# Altium footprint library PMIC.PcbLib: 6 footprints
Each footprint in its own frame and in the unit in brackets; x right, y up, seen from the top. Pads: shape width x height; smd on the part's side, far side on the other; paste and mask are expansions set on the pad; w line width, h text height; cw(c..) or ccw(c..) is an arc to the next point about the centre after c.
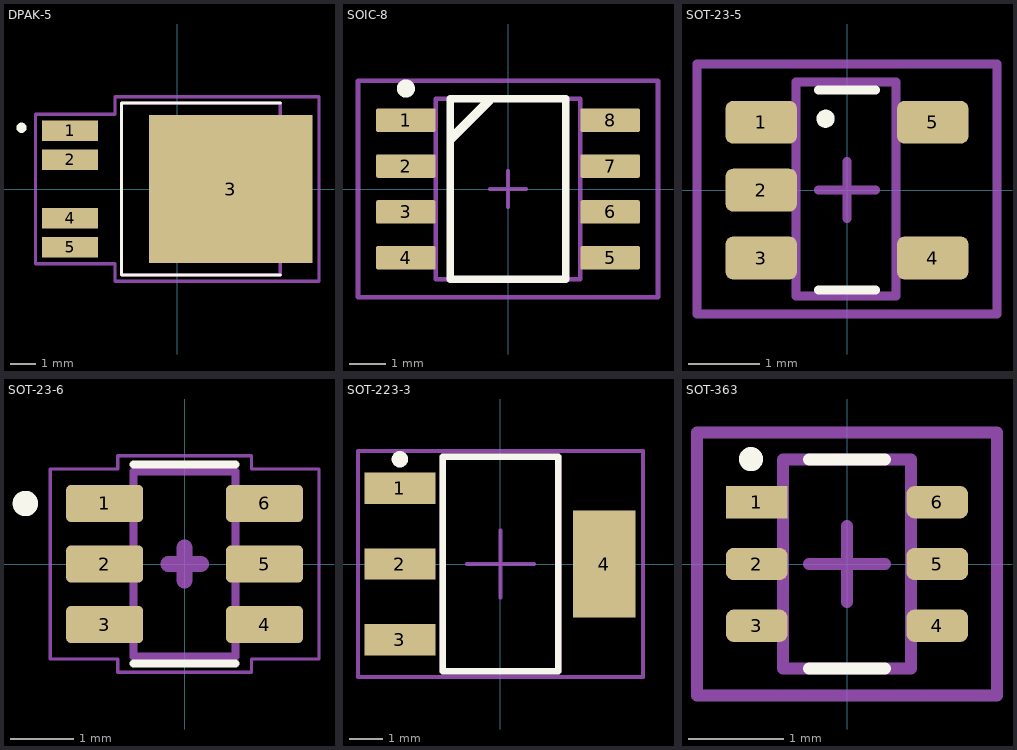
[diagram p0: the footprints below, top view; thin cyan lines are the x and y axes]

## DPAK-5 [mm]
pads (5):
  rect 2.2x0.8 smd: 1(-4.2,2.28) 2(-4.2,1.14) 4(-4.2,-1.14) 5(-4.2,-2.28)
  rect 6.4x5.8 smd paste-4: 3(2.1,0)
Top Overlay:
  circle w0.2: c-6.1,2.4 r0.1
  lines w0.127: 4.03,-3.365 -2.19,-3.365 -2.19,3.365 4.03,3.365
Top Paste:
  region: 2.87,-0.675 1.33,-0.675 1.33,0.675 2.87,0.675
  region: 2.87,-2.615 1.33,-2.615 1.33,-1.265 2.87,-1.265
  region: 2.87,1.265 1.33,1.265 1.33,2.615 2.87,2.615
  region: 5,-0.675 3.46,-0.675 3.46,0.675 5,0.675
  region: 5,-2.615 3.46,-2.615 3.46,-1.265 5,-1.265
  region: 5,1.265 3.46,1.265 3.46,2.615 5,2.615
  region: 0.74,-0.675 -0.8,-0.675 -0.8,0.675 0.74,0.675
  region: 0.74,-2.615 -0.8,-2.615 -0.8,-1.265 0.74,-1.265
  region: 0.74,1.265 -0.8,1.265 -0.8,2.615 0.74,2.615
Top Component Center:
  lines w0.127: -0.762,0 0,0 ; 0,-0.762 0,0 ; 0,0.762 0,0 ; 0.762,0 0,0
Top Component Outline:
  lines w0.127: -2.19,-3.365 4.03,-3.365 4.03,3.365 -2.19,3.365 -2.19,-3.365
Top Courtyard:
  lines w0.127: -5.55,-2.93 -2.44,-2.93 -2.44,-3.615 5.55,-3.615 5.55,3.615 -2.44,3.615 -2.44,2.93 -5.55,2.93 -5.55,-2.93
3D body "step_temp.STEP": height 2.39, standoff 0, extent -4.959,-3.27 4.959,3.27

## SOIC-8 [mm]
pads (8):
  rrect15% 1.65x0.65 smd: 1(-2.825,1.905) 2(-2.825,0.635) 3(-2.825,-0.635) 4(-2.825,-1.905) 5(2.825,-1.905) 6(2.825,-0.635) 7(2.825,0.635) 8(2.825,1.905)
Top Overlay:
  circle w0.25: c-2.825,2.78 r0.125
  lines w0.2: -1.6,-2.5 1.6,-2.5 1.6,2.5 -1.6,2.5 -1.6,-2.5
  lines w0.254: -1.57,1.397 -0.508,2.464
Top Component Center:
  lines w0.1: -0.5,0 0.5,0 ; 0,-0.5 0,0.5
Top Component Outline:
  lines w0.127: -2,-2.5 -2,2.5 2,2.5 2,-2.5 -2,-2.5
Top Courtyard:
  lines w0.127: -4.15,-3 4.15,-3 4.15,3 -4.15,3 -4.15,-3
3D body "SOIC-8akaD0008AakaM08A.stp": height 1.63, standoff 0, extent -3,-2.45 3,2.45

## SOT-23-5 [mm] "generic sot-23-5 footprint"
pads (5):
  rrect35% 1x0.6 smd: 1(-1.2,0.95) 2(-1.2,0) 3(-1.2,-0.95) 4(1.2,-0.95) 5(1.2,0.95)
Top Overlay:
  lines w0.127: -0.4,-1.4 0.4,-1.4 ; -0.4,1.4 0.4,1.4 ; -0.236,1 cw(c-0.3,1) -0.237,1.004
Top Component Center:
  lines w0.127: -0.4,0 0,0 ; 0,-0.4 0,0 ; 0,0.4 0,0 ; 0.4,0 0,0
Top Component Outline:
  lines w0.127: -0.716,-1.484 -0.716,1.516 0.684,1.516 0.684,-1.484 -0.716,-1.484
Top Courtyard:
  lines w0.127: -2.1,-1.734 2.1,-1.734 2.1,1.766 -2.1,1.766 -2.1,-1.734
3D body "TSX921IYLT.step": height 1.45, standoff 0, extent -1.4,-1.45 1.4,1.45

## SOT-23-6 [mm] "generic sot-23-6 footprint"
pads (6):
  rrect25% 1.21x0.58 smd: 1(-1.255,0.95) 2(-1.255,0) 3(-1.255,-0.95) 4(1.255,-0.95) 5(1.255,0) 6(1.255,0.95)
Top Overlay:
  circle w0.2: c-2.5,0.95 r0.1
  lines w0.127: -0.8,-1.56 0.8,-1.56 ; -0.8,1.56 0.8,1.56
Top Component Center:
  lines w0.254: -0.254,0 0.254,0 ; 0,-0.254 0,0.254
Top Component Outline:
  lines w0.127: -0.8,-1.45 0.8,-1.45 0.8,1.45 -0.8,1.45 -0.8,-1.45
Top Courtyard:
  lines w0.05: -2.11,-1.49 -1.05,-1.49 -1.05,-1.7 1.05,-1.7 1.05,-1.49 2.11,-1.49 2.11,1.49 1.05,1.49 1.05,1.7 -1.05,1.7 -1.05,1.49 -2.11,1.49 -2.11,-1.49
3D body "SOT-23-6_CHY_MCH.step": height 1.45, standoff 0, extent -1.397,-1.448 1.397,1.448

## SOT-223-3 [mm]
pads (4):
  rect 2.159x0.95 smd: 1(-3.048,2.3) 2(-3.048,0) 3(-3.048,-2.3)
  rect 1.9x3.25 smd: 4(3.15,0)
Top Overlay:
  circle w0.25: c-3.048,3.175 r0.125
  lines w0.2: -1.75,-3.25 -1.75,3.25 1.75,3.25 1.75,-3.25 -1.75,-3.25
Top Component Center:
  lines w0.127: -1.016,0 0,0 ; 0,-1.016 0,0 ; 0,1.016 0,0 ; 1.016,0 0,0
Top Component Outline:
  lines w0.2: -1.75,-3.25 -1.75,3.25 1.75,3.25 1.75,-3.25 -1.75,-3.25
Top Courtyard:
  lines w0.127: -4.318,-3.429 4.318,-3.429 4.318,3.429 -4.318,3.429 -4.318,-3.429
3D body "MCP1826S-3302E_DB.stp": height 1.8, standoff 0, extent -3.5,-3.25 3.5,3.25

## SOT-363 [mm] "6 pin compact footprint"
pads (6):
  rect 0.65x0.34 smd mask+0.04: 1(-0.95,0.65)
  rrect50% 0.65x0.34 smd mask+0.04: 2(-0.95,0) 3(-0.95,-0.65) 4(0.95,-0.65) 5(0.95,0) 6(0.95,0.65)
Top Overlay:
  lines w0.127: -0.946,1.103 cw(c-1.01,1.103) -0.947,1.107 ; -0.4,-1.1 0.4,-1.1 ; -0.4,1.1 0.4,1.1
Top Component Center:
  lines w0.127: -0.4,0 0,0 ; 0,-0.4 0,0 ; 0,0.4 0,0 ; 0.4,0 0,0
Top Component Outline:
  lines w0.127: -0.675,-1.1 0.675,-1.1 0.675,1.1 -0.675,1.1 -0.675,-1.1
Top Courtyard:
  lines w0.127: -1.578,-1.384 1.578,-1.384 1.578,1.384 -1.578,1.384 -1.578,-1.384
3D body "SOT363.stp": height 1.1, standoff 0.01, extent -1.05,-1.075 1.05,1.075